# Altium integrated library LED_0805.IntLib: 1 symbol
Pins are listed as number, name and electrical type; pins without a type are passive.

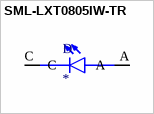
[diagram p0: symbol SML-LXT0805IW-TR]

## SML-LXT0805IW-TR
designator D
Red LED Indication - Discrete 2V 0805 _2012 Metric_; MF: Lumex Opto/Components; MP: SML-LXT0805IW-TR; Value: *; Package: 0805 Lumex; Price: None; Availability: Unavailable; SnapEDA_Link: https://www.snapeda.com/parts/SML-LXT0805IW-TR/Lumex%20Opto/Components%20Inc./view-part/340416/?ref=snap
footprint LEDC2012X120N
pins: A, C